# Altium footprint library MeasuringPoint.PcbLib: 1 footprints
Each footprint in its own frame and in the unit in brackets; x right, y up, seen from the top. Pads: shape width x height; smd on the part's side, far side on the other; paste and mask are expansions set on the pad; w line width, h text height; cw(c..) or ccw(c..) is an arc to the next point about the centre after c.
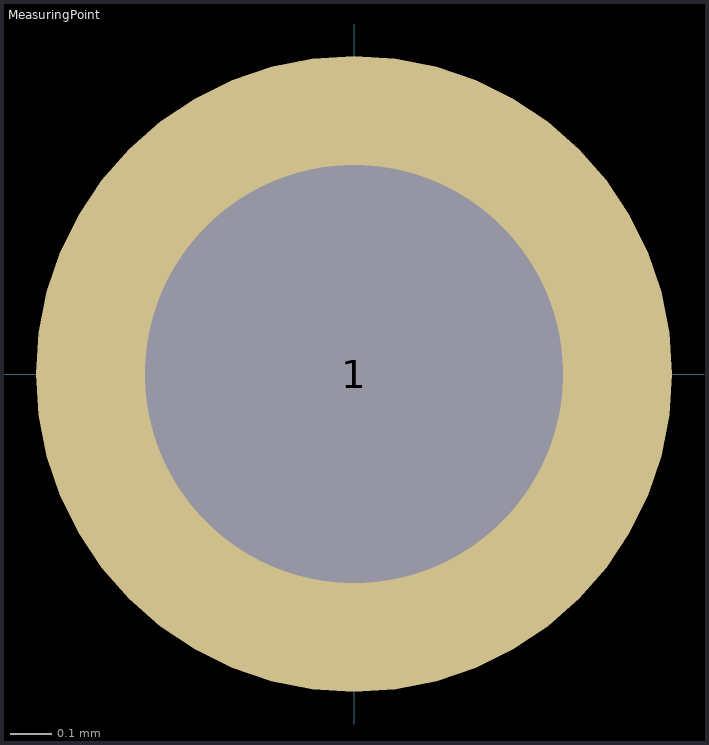
[diagram p0: the footprint, top view; thin cyan lines are the x and y axes]

## MeasuringPoint [mil]
pads (1):
  round 60 hole 39.37: 1(0,0)
3D body: height 78.74, standoff 0, extent -19.53,-19.64 19.69,19.65